# EAGLE library part SAW6 (library receiver_2v0)
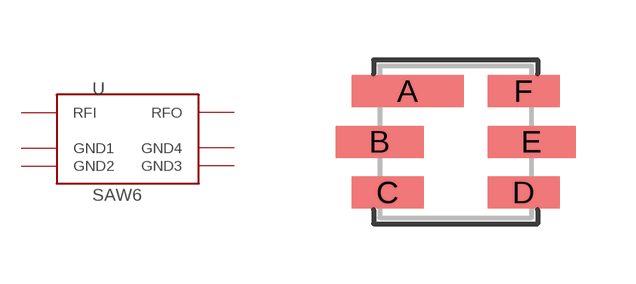
[diagram p1: symbol with the pads of SAW6; footprint SAW6]

Designator prefix U

## SAW6  [SAW6]
A  GND1
B  RFI
C  GND2
D  GND3
E  RFO
F  GND4

## Footprint SAW6 (pad centres in mm)
smd 2.8 x 0.8: A -1.2,1.24
smd 2.2 x 0.8: B -1.9,-0.03; E 1.9,-0.03
smd 1.8 x 0.8: C -1.7,-1.3; D 1.7,-1.3; F 1.7,1.24